# EAGLE library part TC2050-IDC-NLFP (library KVB-connectors)
JTAG Cable PLUG-OF-NAILS 10-PIN W/LEGS
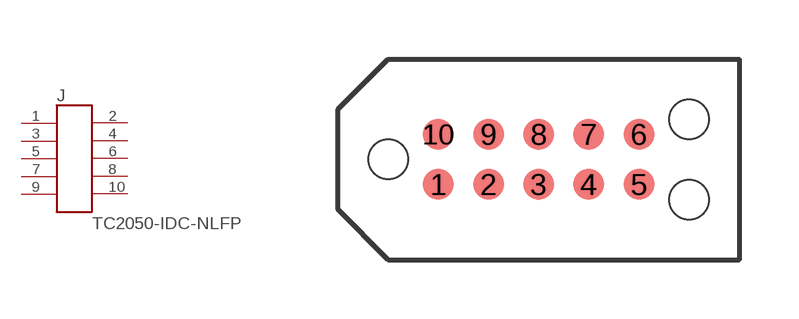
[diagram p20: symbol with the pads of TC2050-IDC-NLFP; footprint TC2050-IDC-NLFP]

Designator prefix J

## TC2050-IDC-NLFP (MAN-PART_NUM: TC2050-IDC-NLFP; MANUFACTURER: Tag Connect)  [TC2050-IDC-NLFP]
1  P$1
2  P$2
3  P$3
4  P$4
5  P$5
6  P$6
7  P$7
8  P$8
9  P$9
10  P$10

## Footprint TC2050-IDC-NLFP (pad centres in mm)
smd 0.787 x 0.787: 1 -2.54,-0.635; 2 -1.27,-0.635; 3 0,-0.635; 4 1.27,-0.635; 5 2.54,-0.635; 6 2.54,0.635; 7 1.27,0.635; 8 0,0.635; 9 -1.27,0.635; 10 -2.54,0.635
hole 1 at -3.81,0
hole 1 at 3.81,-1.016
hole 1 at 3.81,1.016